# Altium footprint library INDP102100X40N.PcbLib: 1 footprints
Each footprint in its own frame and in the unit in brackets; x right, y up, seen from the top. Pads: shape width x height; smd on the part's side, far side on the other; paste and mask are expansions set on the pad; w line width, h text height; cw(c..) or ccw(c..) is an arc to the next point about the centre after c.
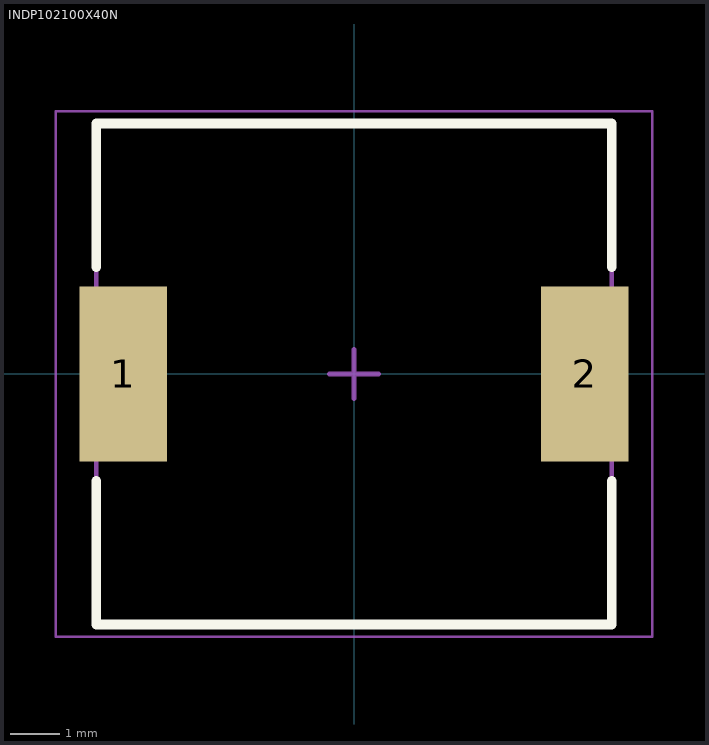
[diagram p0: the footprint, top view; thin cyan lines are the x and y axes]

## INDP102100X40N [mm] "Precision Wire Wound Inductor, 2-Leads, Body 10,20x10,00mm, IPC Medium Density"
height 4
pads (2):
  rect 1.78x3.56 smd: 1(-4.7,0) 2(4.7,0)
Top Overlay:
  lines w0.2: -5.25,-2.18 -5.25,-5.1 5.25,-5.1 5.25,-2.18 ; -5.25,2.18 -5.25,5.1 5.25,5.1 5.25,2.18
Mechanical 13:
  lines w0.1: -5.25,-5.1 5.25,-5.1 5.25,5.1 -5.25,5.1 -5.25,-5.1
Mechanical 15:
  lines w0.05: -6.075,-5.35 6.075,-5.35 6.075,5.35 -6.075,5.35 -6.075,-5.35
  lines w0.1: -0.5,0 0.5,0 ; 0,-0.5 0,0.5
3D body: height 3.9, standoff 0.09, extent -5.105,-5 5.105,5